# EAGLE library part MPL115A (library SparkFun)
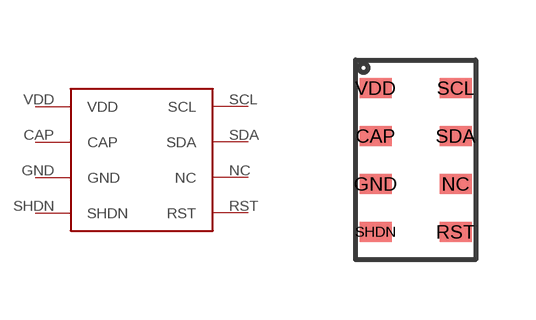
[diagram p289: symbol with the pads of MPL115A; footprint MPL115A]

Designator prefix -

## MPL115A  [MPL115A]
CAP  CAP
GND  GND
NC  NC
RST  RST
SCL  SCL
SDA  SDA
SHDN  SHDN
VDD  VDD

## Footprint MPL115A (pad centres in mm)
smd 0.8 x 0.5: CAP 0.5,3.1; GND 0.5,1.9; NC 2.5,1.9; RST 2.5,0.7; SCL 2.5,4.3; SDA 2.5,3.1; SHDN 0.5,0.7; VDD 0.5,4.3